# EAGLE library part 74LVC1G157 (library custom)
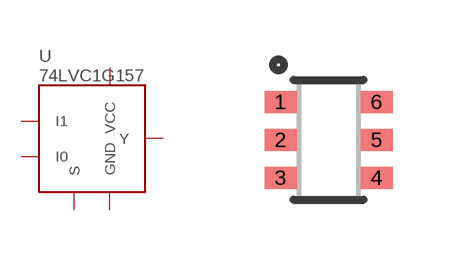
[diagram p79: symbol with the pads of SOT457; footprint SOT457]

Designator prefix U

## 74LVC1G157  [SOT457]
1  I1
2  GND
3  I0
4  Y
5  VCC
6  S

## Footprint SOT457 (pad centres in mm)
smd 0.8 x 0.55: 1 -1.2,0.95; 2 -1.2,0; 3 -1.2,-0.95; 4 1.2,-0.95; 5 1.2,0; 6 1.2,0.95